# Altium footprint library SOT-223.PcbLib: 1 footprints
Each footprint in its own frame and in the unit in brackets; x right, y up, seen from the top. Pads: shape width x height; smd on the part's side, far side on the other; paste and mask are expansions set on the pad; w line width, h text height; cw(c..) or ccw(c..) is an arc to the next point about the centre after c.
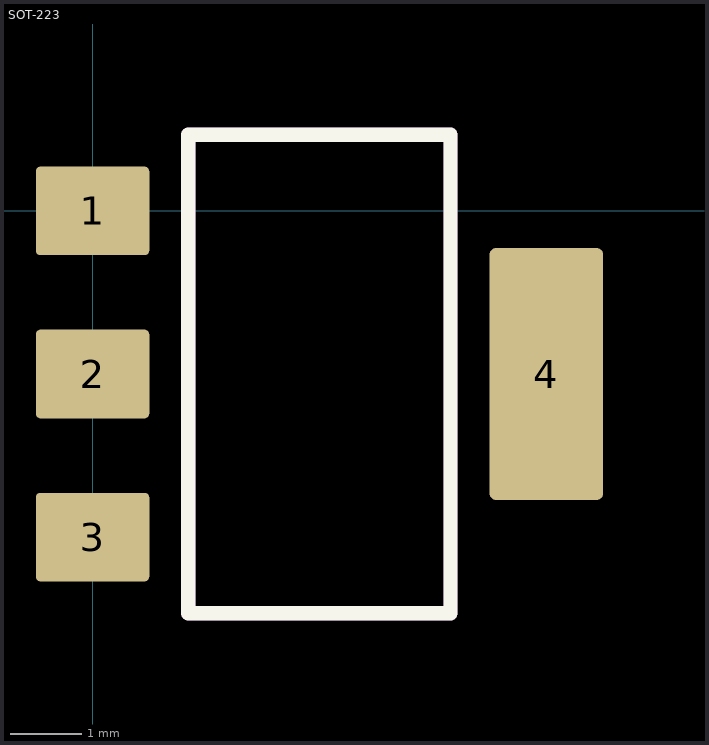
[diagram p0: the footprint, top view; thin cyan lines are the x and y axes]

## SOT-223 [mm]
height 1.8
pads (4):
  rrect10% 1.6x1.25 smd: 1(0,0) 2(0,-2.3) 3(0,-4.6)
  rrect10% 1.6x3.55 smd: 4(6.4,-2.3)
Top Overlay:
  lines w0.2: 1.35,-5.675 5.05,-5.675 5.05,1.075 1.35,1.075 1.35,-5.675
Mechanical 14:
  lines w0.2: 1.35,-5.675 1.35,1.075 5.05,1.075 5.05,-5.675 1.35,-5.675
  text "*" at 2.75,-3.7 h2
3D body "TO-261AA.stp": height 1.8, standoff 0, extent -0.45,-5.65 6.85,1.05